# Altium schematic symbol library MB989.SCHLIB: 13 symbols
Pins are listed as number, name and electrical type; pins without a type are passive.

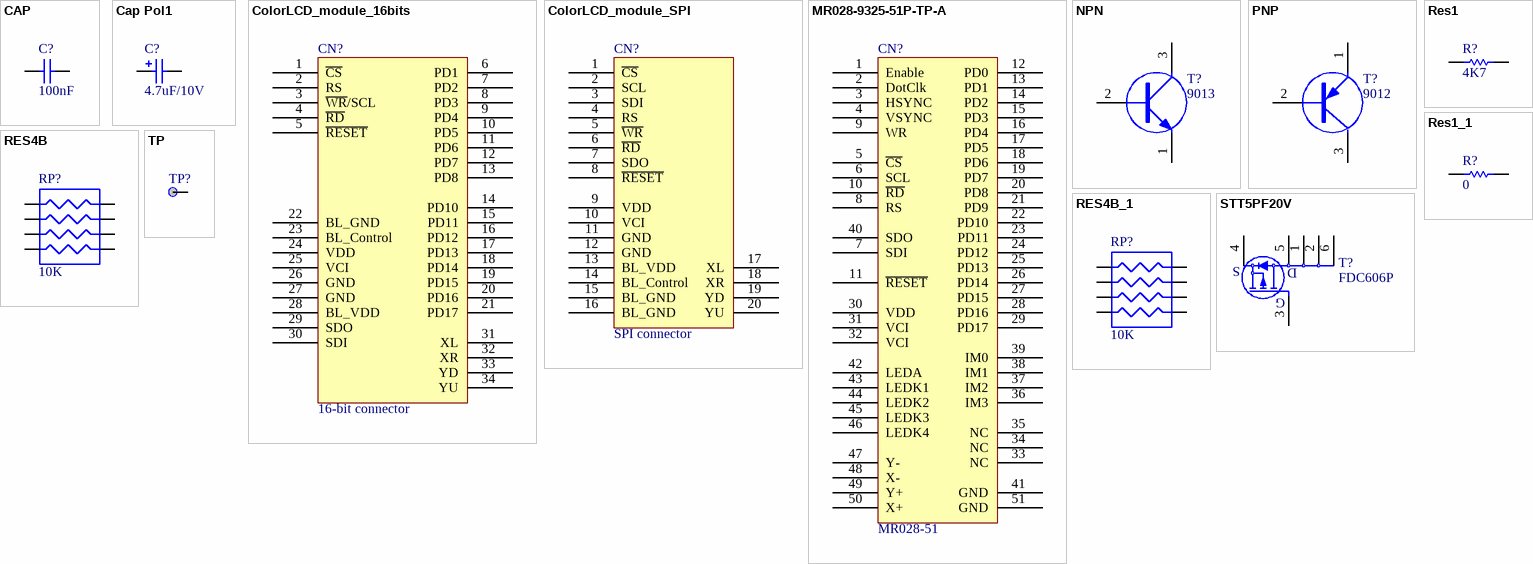
[diagram p0: symbols CAP to TP]

## CAP
designator C?, comment 100nF
Capacitor; Value: 100pF; Published: 8-Jun-2000; Revision: July-2002: Re-released for DXP Platform.; Publisher: Altium Limited
footprint RAD-0.3 (Capacitor; 2 Leads)
simulation model CAP (Capacitor)
signal-integrity model Cap
footprint CAPR5.08-7.8X3.2
footprint CAPR2.54-5.1X3.2
footprint 0603
footprint 0603 (Footprint not found)
footprint 0603C
footprint 0402C
pins: 1, 2

## Cap Pol1
designator C?, comment 4.7uF/10V
Polarized Capacitor (Radial); Value: 100pF; Published: 8-Jun-2000; Revision: July-2002: Re-released for DXP Platform.; Publisher: Altium Limited
footprint TAN-B (Footprint not found)
simulation model CAP (Capacitor)
signal-integrity model Cap Pol
footprint CAPPR1.5-4X5
footprint CAPPR1.27-1.96X4.06
footprint CAPPR2-5X6.8
footprint CAPPR5-5X5
footprint CAPPR7.5-16X35
footprint TAN-A
footprint 1206C
pins: 1, 2

## ColorLCD_module_16bits
designator CN?, comment 16-bit connector
footprint AM240320A (Footprint not found)
footprint AM240*320B
pins: 1 ~{CS}, 2 RS, 3 ~{WR}/SCL, 4 ~{RD}, 5 ~{RESET}, 6 PD1, 7 PD2, 8 PD3, 9 PD4, 10 PD5, 11 PD6, 12 PD7, 13 PD8, 14 PD10, 15 PD11, 16 PD12, 17 PD13, 18 PD14, 19 PD15, 20 PD16, 21 PD17, 22 BL_GND, 23 BL_Control, 24 VDD, 25 VCI, 26 GND, 27 GND, 28 BL_VDD, 29 SDO, 30 SDI, 31 XL, 32 XR, 33 YD, 34 YU

## ColorLCD_module_SPI
designator CN?, comment SPI connector
footprint AM240320A (Footprint not found)
pins: 1 ~{CS}, 2 SCL, 3 SDI, 4 RS, 5 ~{WR}, 6 ~{RD}, 7 SDO, 8 ~{RESET}, 9 VDD, 10 VCI, 11 GND, 12 GND, 13 BL_VDD, 14 BL_Control, 15 BL_GND, 16 BL_GND, 17 XL, 18 XR, 19 YD, 20 YU

## MR028-9325-51P-TP-A
designator CN?, comment MR028-51
pins: 1 Enable, 2 DotClk, 3 HSYNC, 4 VSYNC, 5 ~{CS}, 6 SCL, 7 SDI, 8 RS, 9 WR, 10 ~{RD}, 11 ~{RESET}, 12 PD0, 13 PD1, 14 PD2, 15 PD3, 16 PD4, 17 PD5, 18 PD6, 19 PD7, 20 PD8, 21 PD9, 22 PD10, 23 PD11, 24 PD12, 25 PD13, 26 PD14, 27 PD15, 28 PD16, 29 PD17, 30 VDD, 31 VCI, 32 VCI, 33 NC, 34 NC, 35 NC, 36 IM3, 37 IM2, 38 IM1, 39 IM0, 40 SDO, 41 GND, 42 LEDA, 43 LEDK1, 44 LEDK2, 45 LEDK3, 46 LEDK4, 47 Y-, 48 X-, 49 Y+, 50 X+, 51 GND

## NPN
designator T?, comment 9013
footprint SOT-23
pins: 1 E, 2 B, 3 C

## PNP
designator T?, comment 9012
footprint SOT-23
pins: 1 E, 2 B, 3 C

## Res1
designator R?, comment 4K7
Resistor; Value: 1K; Published: 8-Jun-2000; Revision: July-2002: Re-released for DXP Platform.; Publisher: Altium Limited
footprint AXIAL-0.3
footprint 0603
footprint 0603R
footprint 0402R
pins: 1, 2
2 alternate drawings of the same symbol

## Res1_1
designator R?, comment 0
Resistor; Value: 1K; Published: 8-Jun-2000; Revision: July-2002: Re-released for DXP Platform.; Publisher: Altium Limited
footprint AXIAL-0.3
footprint 0603
footprint 0603R
footprint 0402R
pins: 1, 2
2 alternate drawings of the same symbol

## RES4B
designator RP?, comment 10K
footprint RES-4B
pins: 1 R0, 2 R1, 3 R2, 4 R3, 5 R3, 6 R2, 7 R1, 8 R0
2 alternate drawings of the same symbol

## RES4B_1
designator RP?, comment 10K
footprint RES-4B
pins: 1 R0, 2 R1, 3 R2, 4 R3, 5 R3, 6 R2, 7 R1, 8 R0

## STT5PF20V
designator T?, comment FDC606P
footprint Model Name (Footprint not found)
footprint SOT23-6L
pins: 1 D, 2 D, 3 G, 4 S, 5 D, 6 D

## TP
designator TP?
footprint TP
pins: 1